# Altium footprint library srn_2_600x600x450.PcbLib: 1 footprints
Each footprint in its own frame and in the unit in brackets; x right, y up, seen from the top. Pads: shape width x height; smd on the part's side, far side on the other; paste and mask are expansions set on the pad; w line width, h text height; cw(c..) or ccw(c..) is an arc to the next point about the centre after c.
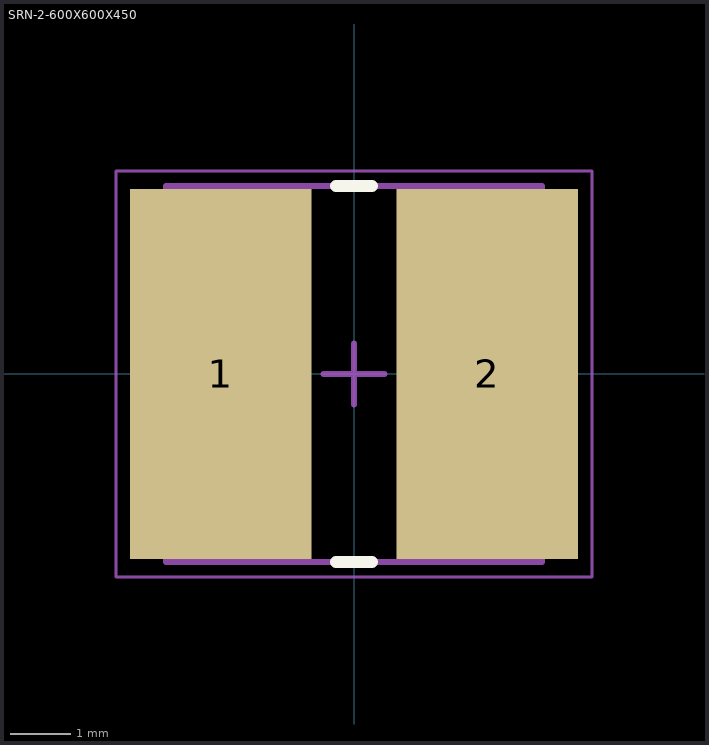
[diagram p0: the footprint, top view; thin cyan lines are the x and y axes]

## SRN-2-600X600X450 [mm] "Precision Wire Wound Inductor, 2-Leads, Body 6,00x6,00mm, IPC Medium Density"
height 4.5
pads (2):
  rect 3x6.1 smd: 1(-2.2,0) 2(2.2,0)
Top Overlay:
  lines w0.2: -0.3,-3.1 0.3,-3.1 ; -0.3,3.1 0.3,3.1
Top Comment:
  text ".Comment" at 1,3.6 h1.2
Top Designator:
  text ".Designator" at -0.5,3.6 h1.2
Top Component Outline:
  lines w0.1: -3.1,-3.1 3.1,-3.1 3.1,3.1 -3.1,3.1 -3.1,-3.1
Top Courtyard (Mech15):
  lines w0.05: -3.925,-3.35 -3.925,3.35 3.925,3.35 3.925,-3.35 -3.925,-3.35
  lines w0.1: -0.5,0 0.5,0 ; 0,-0.5 0,0.5
3D body "SRN6045.STEP": height 4.5, standoff 0, extent -3.15,-3 3.15,3